# EAGLE library part MICROBUILDER_HEADER-1X12 (library CR1000X MUX)
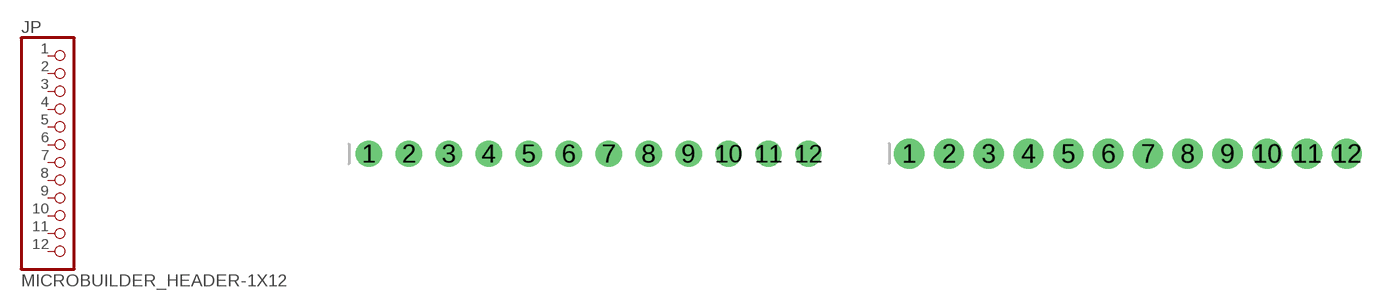
[diagram p3: symbol with the pads of MICROBUILDER_1X12_ROUND; footprints MICROBUILDER_1X12_ROUND, MICROBUILDER_1X12_ROUND_76MIL]

Designator prefix JP

## MICROBUILDER_HEADER-1X12  [MICROBUILDER_1X12_ROUND]
1  1  pas
2  2  pas
3  3  pas
4  4  pas
5  5  pas
6  6  pas
7  7  pas
8  8  pas
9  9  pas
10  10  pas
11  11  pas
12  12  pas

## MICROBUILDER_HEADER-1X1276MIL  [MICROBUILDER_1X12_ROUND_76MIL]
Pads as for MICROBUILDER_1X12_ROUND

## MICROBUILDER_HEADER-1X1280MIL  [MICROBUILDER_1X12_ROUND_80MIL]
Pads as for MICROBUILDER_1X12_ROUND

## MICROBUILDER_HEADER-1X12OVAL  [MICROBUILDER_1X12_OVAL]
Pads as for MICROBUILDER_1X12_ROUND

## Footprint MICROBUILDER_1X12_ROUND (pad centres in mm)
drill 1 pad 1.676: 1 -13.97,0; 2 -11.43,0; 3 -8.89,0; 4 -6.35,0; 5 -3.81,0; 6 -1.27,0; 7 1.27,0; 8 3.81,0; 9 6.35,0; 10 8.89,0; 11 11.43,0; 12 13.97,0

## Footprint MICROBUILDER_1X12_ROUND_76MIL (pad centres in mm)
drill 1 pad 1.93: 1 -13.97,0; 2 -11.43,0; 3 -8.89,0; 4 -6.35,0; 5 -3.81,0; 6 -1.27,0; 7 1.27,0; 8 3.81,0; 9 6.35,0; 10 8.89,0; 11 11.43,0; 12 13.97,0

## Footprint MICROBUILDER_1X12_ROUND_80MIL (pad centres in mm)
drill 1 pad 2.032: 1 -13.97,0; 2 -11.43,0; 3 -8.89,0; 4 -6.35,0; 5 -3.81,0; 6 -1.27,0; 7 1.27,0; 8 3.81,0; 9 6.35,0; 10 8.89,0; 11 11.43,0; 12 13.97,0

## Footprint MICROBUILDER_1X12_OVAL (pad centres in mm)
drill 1 pad 1.676 long: 1 -13.97,0; 2 -11.43,0; 3 -8.89,0; 4 -6.35,0; 5 -3.81,0; 6 -1.27,0; 7 1.27,0; 8 3.81,0; 9 6.35,0; 10 8.89,0; 11 11.43,0; 12 13.97,0